# Altium footprint library MDM-9.PcbLib: 1 footprints
Each footprint in its own frame and in the unit in brackets; x right, y up, seen from the top. Pads: shape width x height; smd on the part's side, far side on the other; paste and mask are expansions set on the pad; w line width, h text height; cw(c..) or ccw(c..) is an arc to the next point about the centre after c.
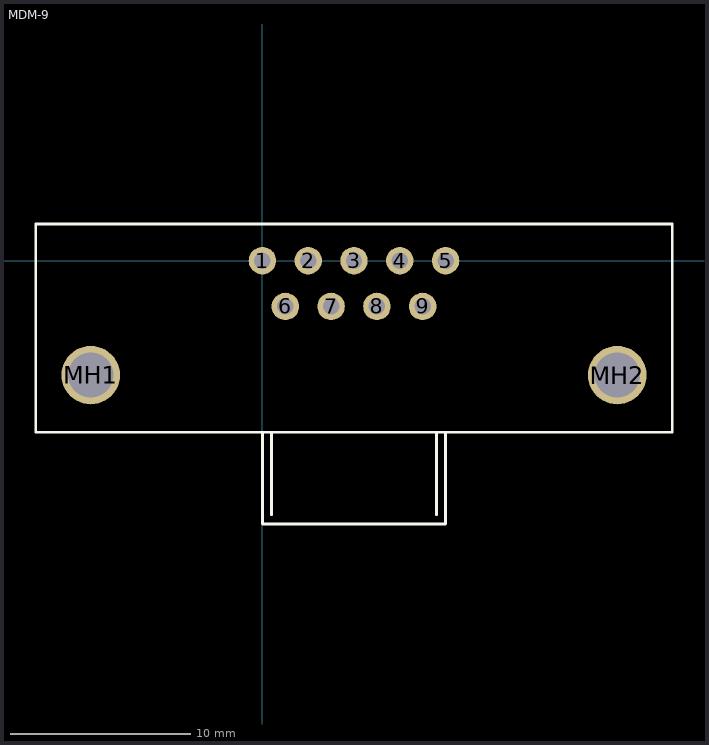
[diagram p0: the footprint, top view; thin cyan lines are the x and y axes]

## MDM-9 [mil]
pads (11):
  round 60 hole 36: 1(0,0) 2(100,0) 3(200,0) 4(300,0) 5(400,0) 6(50,-100) 7(150,-100) 8(250,-100) 9(350,-100)
  round 128 hole 98.43: MH1(-375,-250) MH2(775,-250)
Top Overlay:
  lines w6: 20,-555 20,-375 ; 380,-555 380,-375 ; -495,-375 -495,80 895,80 895,-375 -495,-375 ; 0,-575 0,-375 400,-375 400,-575 0,-575
3D body: height 307.87, standoff 0, extent -495,-370 895,80